# Altium schematic symbol library CDSOT23-SM712.SchLib: 2 symbols
Pins are listed as number, name and electrical type; pins without a type are passive.

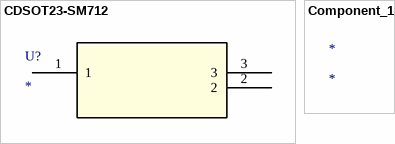
[diagram p0: symbols CDSOT23-SM712 to Component_1]

## CDSOT23-SM712
designator U?
No Description Available; Mfr_Name: Bourns Electronics; RefDes: RefDes; Type: Type
footprint SOT_SM712
pins: 1, 2, 3

## Component_1
designator *